# EAGLE library part ADE9153AACPZ (library ADE9153AACPZ)
Check availability <https://pricing.snapeda.com/parts/ADE9153AACPZ/Analog%20Devices/view-part?ref=eda>
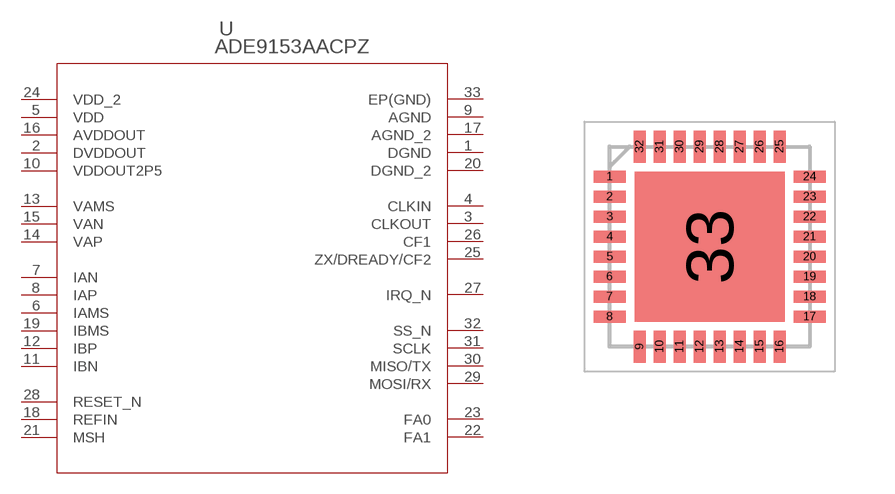
[diagram p0: symbol with the pads of QFN50P500X500X80-33N; footprint QFN50P500X500X80-33N]

Designator prefix -

## ADE9153AACPZ (Availability: In Stock; Description: Energy Metering IC with Autocalibration; MF: Analog Devices; MP: ADE9153AACPZ; Package: LFCSP -32 Analog Devices; Price: None; Purchase-URL: https://pricing.snapeda.com/search/part/ADE9153AACPZ/?ref=eda)  [QFN50P500X500X80-33N]
1  DGND  pas
2  DVDDOUT  pas
3  CLKOUT  pas
4  CLKIN  pas
5  VDD  pas
6  IAMS  pas
7  IAN  pas
8  IAP  pas
9  AGND  pas
10  VDDOUT2P5  pas
11  IBN  pas
12  IBP  pas
13  VAMS  pas
14  VAP  pas
15  VAN  pas
16  AVDDOUT  pas
17  AGND_2  pas
18  REFIN  pas
19  IBMS  pas
20  DGND_2  pas
21  MSH  pas
22  FA1  pas
23  FA0  pas
24  VDD_2  pas
25  ZX/DREADY/CF2  pas
26  CF1  pas
27  IRQ_N  pas
28  RESET_N  pas
29  MOSI/RX  pas
30  MISO/TX  pas
31  SCLK  pas
32  SS_N  pas
33  EP(GND)  pas

## Footprint QFN50P500X500X80-33N (pad centres in mm)
LFCSP-WQ CP-32-12
smd 0.8 x 0.3: 1 -2.5,1.75; 2 -2.5,1.25; 3 -2.5,0.75; 4 -2.5,0.25; 5 -2.5,-0.25; 6 -2.5,-0.75; 7 -2.5,-1.25; 8 -2.5,-1.75; 17 2.5,-1.75; 18 2.5,-1.25; 19 2.5,-0.75; 20 2.5,-0.25; 21 2.5,0.25; 22 2.5,0.75; 23 2.5,1.25; 24 2.5,1.75
smd 0.3 x 0.8: 9 -1.75,-2.5; 10 -1.25,-2.5; 11 -0.75,-2.5; 12 -0.25,-2.5; 13 0.25,-2.5; 14 0.75,-2.5; 15 1.25,-2.5; 16 1.75,-2.5; 25 1.75,2.5; 26 1.25,2.5; 27 0.75,2.5; 28 0.25,2.5; 29 -0.25,2.5; 30 -0.75,2.5; 31 -1.25,2.5; 32 -1.75,2.5
smd 3.75 x 3.75: 33 0,0